# Altium footprint library Estacion_Meteorologica_Final.PcbLib: 55 footprints (part 4 of 4)
Each footprint in its own frame and in the unit in brackets; x right, y up, seen from the top. Pads: shape width x height; smd on the part's side, far side on the other; paste and mask are expansions set on the pad; w line width, h text height; cw(c..) or ccw(c..) is an arc to the next point about the centre after c.
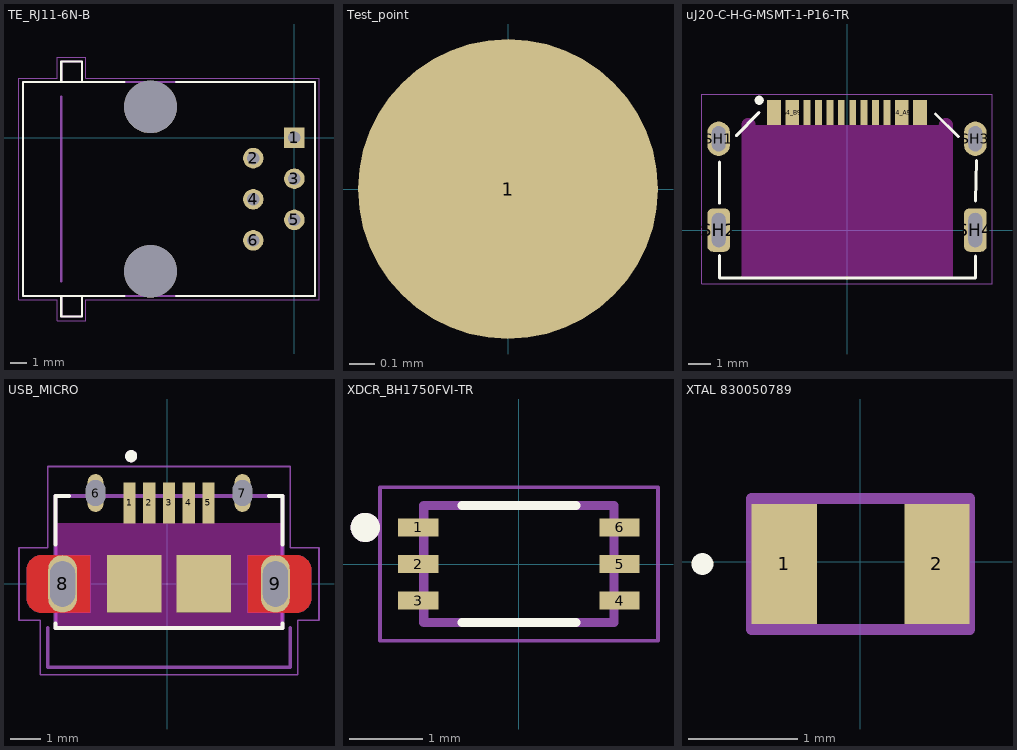
[diagram p3: the footprints below, top view; thin cyan lines are the x and y axes]

## TE_RJ11-6N-B [mm]
pads (8):
  rect 1.268x1.268 / inner round 1.268 / far side rect 1.268x1.268 hole 0.76: 1(0,0)
  round 1.268 hole 0.76: 2(-2.54,-1.27) 3(0,-2.54) 4(-2.54,-3.81) 5(0,-5.08) 6(-2.54,-6.35)
  round 3.25 hole 3.25 unplated: ""(-8.89,-8.26) ""(-8.89,1.9)
Top Overlay:
  lines w0.127: -10.5,-9.78 -13.13,-9.78 ; -10.5,3.43 -13.13,3.43 ; -7.3,-9.78 1.27,-9.78 1.27,3.43 -7.3,3.43 ; -14.4,-9.78 -13.13,-9.78 ; -14.4,-9.78 -16.76,-9.78 -16.76,3.43 -14.4,3.43 ; -14.4,-9.78 -14.4,-11.05 -13.13,-11.05 -13.13,-9.78 ; -14.4,3.43 -13.13,3.43 ; -14.4,3.43 -14.4,4.7 -13.13,4.7 -13.13,3.43
Mechanical 13:
  lines w0.127: -14.4,-8.89 -14.4,2.54 ; -14.4,-9.78 -13.13,-9.78 ; -14.4,-9.78 -16.76,-9.78 -16.76,3.43 -14.4,3.43 ; -14.4,-9.78 -14.4,-11.05 -13.13,-11.05 -13.13,-9.78 ; -14.4,3.43 -13.13,3.43 ; -14.4,3.43 -14.4,4.7 -13.13,4.7 -13.13,3.43 ; -13.13,-9.78 1.27,-9.78 1.27,3.43 -13.13,3.43
  text "PCB EDGE" at -14.761,-5.087 h0.5
Mechanical 15:
  lines w0.05: -17.01,-10.03 -14.65,-10.03 -14.65,-11.3 -12.88,-11.3 -12.88,-10.03 1.52,-10.03 1.52,3.68 -12.88,3.68 -12.88,4.95 -14.65,4.95 -14.65,3.68 -17.01,3.68 -17.01,-10.03
3D body "step_temp.STEP": height 12.57, standoff -3.94, extent -16.764,-11.049 1.27,4.699

## Test_point [mm]
pads (1):
  round 1.2 smd: 1(0,0)

## uJ20-C-H-G-MSMT-1-P16-TR [mm]
height 1.56
pads (16):
  rect 0.6x1.1 smd: A1_B12(-3.2,5.15) A4_B9(-2.4,5.15) A12_B1(3.2,5.15) B4_A9(2.4,5.15)
  rect 0.3x1.1 smd: A5(-1.25,5.15) A6(-0.25,5.15) A7(0.25,5.15) A8(1.25,5.15) B5(1.75,5.15) B6(0.75,5.15) B7(-0.75,5.15) B8(-1.75,5.15)
  oval 1x1.5 hole 0.6 slot 1.1 at 90 deg: SH1(-5.62,4) SH3(5.62,4)
  rrect50% 1x1.9 hole 0.6 slot 1.5 at 90 deg: SH2(-5.62,0) SH4(5.62,0)
Top Overlay:
  circle w0.2: c-3.846,5.687 r0.1
  lines w0.127: -5.591,-1.113 -5.591,-2.1 5.634,-2.1 5.634,-1.143 ; -5.591,1.176 -5.58,2.99 ; -4.851,4.133 -3.861,5.143 ; 3.871,5.083 4.882,4.092 ; 5.634,1.28 5.664,3.04
Keep-Out Layer:
  board cut-out: 4.628,-2.1 -4.612,-2.1 -4.612,4.6 -4.612,4.616 -4.61,4.631 -4.608,4.647 -4.605,4.662 -4.602,4.678 -4.597,4.693 -4.592,4.708 -4.586,4.722 -4.579,4.736 -4.572,4.75 -4.564,4.763 -4.555,4.776 -4.545,4.789 -4.535,4.801 -4.524,4.812 -4.513,4.823 -4.501,4.833 -4.488,4.843 -4.475,4.852 -4.462,4.86 -4.448,4.867 -4.434,4.874 -4.42,4.88 -4.405,4.885 -4.39,4.89 -4.374,4.893 -4.359,4.896 -4.343,4.898 -4.328,4.9 -4.312,4.9 -4.296,4.9 -4.281,4.898 -4.265,4.896 -4.25,4.893 -4.234,4.89 -4.219,4.885 -4.204,4.88 -4.19,4.874 -4.176,4.867 -4.162,4.86 -4.149,4.852 -4.136,4.843 -4.123,4.833 -4.111,4.823 -4.1,4.812 -4.089,4.801 -4.079,4.789 -4.069,4.776 -4.06,4.763 -4.052,4.75 -4.045,4.736 -4.038,4.722 -4.032,4.708 -4.027,4.693 -4.022,4.678 -4.019,4.662 -4.016,4.647 -4.014,4.631 -4.012,4.616 -4.012,4.6 4.028,4.6 4.028,4.616 4.03,4.631 4.032,4.647 4.035,4.662 4.038,4.678 4.043,4.693 4.048,4.708 4.054,4.722 4.061,4.736 4.068,4.75 4.076,4.763 4.085,4.776 4.095,4.789 4.105,4.801 4.116,4.812 4.127,4.823 4.139,4.833 4.152,4.843 4.165,4.852 4.178,4.86 4.192,4.867 4.206,4.874 4.22,4.88 4.235,4.885 4.25,4.89 4.266,4.893 4.281,4.896 4.297,4.898 4.312,4.9 4.328,4.9 4.344,4.9 4.359,4.898 4.375,4.896 4.39,4.893 4.406,4.89 4.421,4.885 4.436,4.88 4.45,4.874 4.464,4.867 4.478,4.86 4.491,4.852 4.504,4.843 4.517,4.833 4.529,4.823 4.54,4.812 4.551,4.801 4.561,4.789 4.571,4.776 4.58,4.763 4.588,4.75 4.595,4.736 4.602,4.722 4.608,4.708 4.613,4.693 4.618,4.678 4.621,4.662 4.624,4.647 4.626,4.631 4.628,4.616 4.628,4.6
Mechanical 15:
  lines w0.05: -6.37,-2.35 -6.37,5.95 6.37,5.95 6.37,-2.35 -6.37,-2.35
3D body "Same_Sky_UJ20-C-H-G-MSMT-P16-TR.step": height 2.59, standoff -1.03, extent -5.77,-2.088 5.77,5.112

## USB_MICRO [mm]
pads (11):
  rect 0.4x1.35 smd mask+0.1: 1(-1.249,2.676) 2(-0.599,2.676) 3(0.051,2.676) 4(0.701,2.676) 5(1.351,2.676)
  oval 0.525x1.25 hole 0.65 slot 0.85 at 90 deg mask+0.1: 6(-2.374,3.001) 7(2.476,3.001)
  oval 0.95x1.9 hole 0.825 slot 1.5 at 90 deg mask+0.1: 8(-3.462,0.001) 9(3.563,0.001)
  rect 1.8x1.9 smd mask+0.1: ""(-1.099,0.001) ""(1.201,0.001)
Top Layer:
  region: 4.277,0.95 4.303,0.948 4.329,0.945 4.355,0.94 4.38,0.934 4.406,0.927 4.43,0.918 4.454,0.908 4.478,0.897 4.501,0.884 4.523,0.87 4.545,0.856 4.566,0.84 4.586,0.823 4.605,0.805 4.623,0.786 4.64,0.766 4.656,0.745 4.67,0.723 4.684,0.701 4.697,0.678 4.708,0.654 4.718,0.63 4.727,0.606 4.734,0.58 4.74,0.555 4.745,0.529 4.748,0.503 4.75,0.477 4.751,0.451 4.751,0.001 3.976,0.001 3.976,0.476 3.976,0.49 3.974,0.505 3.973,0.519 3.97,0.533 3.967,0.547 3.963,0.561 3.958,0.575 3.952,0.588 3.946,0.601 3.939,0.614 3.932,0.626 3.923,0.638 3.915,0.649 3.905,0.66 3.895,0.67 3.885,0.68 3.874,0.69 3.863,0.698 3.851,0.707 3.838,0.714 3.826,0.721 3.813,0.727 3.8,0.733 3.786,0.738 3.772,0.742 3.758,0.745 3.744,0.748 3.73,0.749 3.715,0.751 3.435,0.751 3.42,0.749 3.404,0.747 3.389,0.744 3.373,0.741 3.358,0.736 3.343,0.731 3.329,0.725 3.315,0.718 3.301,0.711 3.288,0.703 3.275,0.694 3.262,0.684 3.25,0.674 3.239,0.663 3.228,0.652 3.218,0.64 3.208,0.627 3.199,0.614 3.191,0.601 3.184,0.587 3.177,0.573 3.171,0.559 3.166,0.544 3.161,0.529 3.158,0.513 3.155,0.498 3.153,0.482 3.151,0.467 3.151,0.451 3.151,0.001 2.651,0.001 2.651,0.951 4.251,0.951
  region: -2.549,-0.949 -4.149,-0.949 -4.175,-0.948 -4.201,-0.946 -4.227,-0.943 -4.253,-0.938 -4.278,-0.932 -4.304,-0.925 -4.328,-0.916 -4.352,-0.906 -4.376,-0.895 -4.399,-0.882 -4.421,-0.868 -4.443,-0.854 -4.464,-0.838 -4.484,-0.821 -4.503,-0.803 -4.521,-0.784 -4.538,-0.764 -4.554,-0.743 -4.568,-0.721 -4.582,-0.699 -4.595,-0.676 -4.606,-0.652 -4.616,-0.628 -4.625,-0.604 -4.632,-0.578 -4.638,-0.553 -4.643,-0.527 -4.646,-0.501 -4.648,-0.475 -4.649,-0.449 -4.649,0.001 -3.874,0.001 -3.874,-0.474 -3.874,-0.488 -3.872,-0.503 -3.871,-0.517 -3.868,-0.531 -3.865,-0.545 -3.861,-0.559 -3.856,-0.573 -3.85,-0.586 -3.844,-0.599 -3.837,-0.612 -3.83,-0.624 -3.821,-0.636 -3.813,-0.647 -3.803,-0.658 -3.793,-0.668 -3.783,-0.678 -3.772,-0.688 -3.761,-0.696 -3.749,-0.705 -3.736,-0.712 -3.724,-0.719 -3.711,-0.725 -3.698,-0.731 -3.684,-0.736 -3.67,-0.74 -3.656,-0.743 -3.642,-0.746 -3.628,-0.747 -3.613,-0.749 -3.333,-0.749 -3.318,-0.747 -3.302,-0.745 -3.287,-0.742 -3.271,-0.739 -3.256,-0.734 -3.241,-0.729 -3.227,-0.723 -3.213,-0.716 -3.199,-0.709 -3.186,-0.701 -3.173,-0.692 -3.16,-0.682 -3.148,-0.672 -3.137,-0.661 -3.126,-0.65 -3.116,-0.638 -3.106,-0.625 -3.097,-0.612 -3.089,-0.599 -3.082,-0.585 -3.075,-0.571 -3.069,-0.557 -3.064,-0.542 -3.059,-0.527 -3.056,-0.511 -3.053,-0.496 -3.051,-0.48 -3.049,-0.465 -3.049,-0.449 -3.049,0.001 -2.549,0.001
  region: 4.751,-0.449 4.75,-0.475 4.748,-0.501 4.745,-0.527 4.74,-0.553 4.734,-0.578 4.727,-0.604 4.718,-0.628 4.708,-0.652 4.697,-0.676 4.684,-0.699 4.67,-0.721 4.656,-0.743 4.64,-0.764 4.623,-0.784 4.605,-0.803 4.586,-0.821 4.566,-0.838 4.545,-0.854 4.523,-0.868 4.501,-0.882 4.478,-0.895 4.454,-0.906 4.43,-0.916 4.406,-0.925 4.38,-0.932 4.355,-0.938 4.329,-0.943 4.303,-0.946 4.277,-0.948 4.251,-0.949 2.651,-0.949 2.651,0.001 3.151,0.001 3.151,-0.449 3.151,-0.465 3.153,-0.48 3.155,-0.496 3.158,-0.511 3.161,-0.527 3.166,-0.542 3.171,-0.557 3.177,-0.571 3.184,-0.585 3.191,-0.599 3.199,-0.612 3.208,-0.625 3.218,-0.638 3.228,-0.65 3.239,-0.661 3.25,-0.672 3.262,-0.682 3.275,-0.692 3.288,-0.701 3.301,-0.709 3.315,-0.716 3.329,-0.723 3.343,-0.729 3.358,-0.734 3.373,-0.739 3.389,-0.742 3.404,-0.745 3.42,-0.747 3.435,-0.749 3.692,-0.749 3.707,-0.747 3.723,-0.745 3.738,-0.742 3.754,-0.739 3.769,-0.734 3.784,-0.729 3.798,-0.723 3.812,-0.716 3.826,-0.709 3.839,-0.701 3.852,-0.692 3.865,-0.682 3.877,-0.672 3.888,-0.661 3.899,-0.65 3.909,-0.638 3.919,-0.625 3.928,-0.612 3.936,-0.599 3.943,-0.585 3.95,-0.571 3.956,-0.557 3.961,-0.542 3.966,-0.527 3.969,-0.511 3.972,-0.496 3.974,-0.48 3.976,-0.465 3.976,-0.449 3.976,0.001 4.751,0.001
  region: -2.549,0.001 -3.049,0.001 -3.049,0.451 -3.049,0.467 -3.051,0.482 -3.053,0.498 -3.056,0.513 -3.059,0.529 -3.064,0.544 -3.069,0.559 -3.075,0.573 -3.082,0.587 -3.089,0.601 -3.097,0.614 -3.106,0.627 -3.116,0.64 -3.126,0.652 -3.137,0.663 -3.148,0.674 -3.16,0.684 -3.173,0.694 -3.186,0.703 -3.199,0.711 -3.213,0.718 -3.227,0.725 -3.241,0.731 -3.256,0.736 -3.271,0.741 -3.287,0.744 -3.302,0.747 -3.318,0.749 -3.333,0.751 -3.59,0.751 -3.605,0.749 -3.621,0.747 -3.636,0.744 -3.652,0.741 -3.667,0.736 -3.682,0.731 -3.696,0.725 -3.71,0.718 -3.724,0.711 -3.737,0.703 -3.75,0.694 -3.763,0.684 -3.775,0.674 -3.786,0.663 -3.797,0.652 -3.807,0.64 -3.817,0.627 -3.826,0.614 -3.834,0.601 -3.841,0.587 -3.848,0.573 -3.854,0.559 -3.859,0.544 -3.864,0.529 -3.867,0.513 -3.87,0.498 -3.872,0.482 -3.874,0.467 -3.874,0.451 -3.874,0.001 -4.649,0.001 -4.649,0.451 -4.648,0.477 -4.646,0.503 -4.643,0.529 -4.638,0.555 -4.632,0.58 -4.625,0.606 -4.616,0.63 -4.606,0.654 -4.595,0.678 -4.582,0.701 -4.568,0.723 -4.554,0.745 -4.538,0.766 -4.521,0.786 -4.503,0.805 -4.484,0.823 -4.464,0.84 -4.443,0.856 -4.421,0.87 -4.399,0.884 -4.376,0.897 -4.352,0.908 -4.328,0.918 -4.304,0.927 -4.278,0.934 -4.253,0.94 -4.227,0.945 -4.201,0.948 -4.175,0.95 -4.149,0.951 -2.549,0.951
Bottom Layer:
  region: 4.277,0.95 4.303,0.948 4.329,0.945 4.355,0.94 4.38,0.934 4.406,0.927 4.43,0.918 4.454,0.908 4.478,0.897 4.501,0.884 4.523,0.87 4.545,0.856 4.566,0.84 4.586,0.823 4.605,0.805 4.623,0.786 4.64,0.766 4.656,0.745 4.67,0.723 4.684,0.701 4.697,0.678 4.708,0.654 4.718,0.63 4.727,0.606 4.734,0.58 4.74,0.555 4.745,0.529 4.748,0.503 4.75,0.477 4.751,0.451 4.751,0.001 3.976,0.001 3.976,0.476 3.976,0.49 3.974,0.505 3.973,0.519 3.97,0.533 3.967,0.547 3.963,0.561 3.958,0.575 3.952,0.588 3.946,0.601 3.939,0.614 3.932,0.626 3.923,0.638 3.915,0.649 3.905,0.66 3.895,0.67 3.885,0.68 3.874,0.69 3.863,0.698 3.851,0.707 3.838,0.714 3.826,0.721 3.813,0.727 3.8,0.733 3.786,0.738 3.772,0.742 3.758,0.745 3.744,0.748 3.73,0.749 3.715,0.751 3.435,0.751 3.42,0.749 3.404,0.747 3.389,0.744 3.373,0.741 3.358,0.736 3.343,0.731 3.329,0.725 3.315,0.718 3.301,0.711 3.288,0.703 3.275,0.694 3.262,0.684 3.25,0.674 3.239,0.663 3.228,0.652 3.218,0.64 3.208,0.627 3.199,0.614 3.191,0.601 3.184,0.587 3.177,0.573 3.171,0.559 3.166,0.544 3.161,0.529 3.158,0.513 3.155,0.498 3.153,0.482 3.151,0.467 3.151,0.451 3.151,0.001 2.651,0.001 2.651,0.951 4.251,0.951
  region: -2.549,-0.949 -4.149,-0.949 -4.175,-0.948 -4.201,-0.946 -4.227,-0.943 -4.253,-0.938 -4.278,-0.932 -4.304,-0.925 -4.328,-0.916 -4.352,-0.906 -4.376,-0.895 -4.399,-0.882 -4.421,-0.868 -4.443,-0.854 -4.464,-0.838 -4.484,-0.821 -4.503,-0.803 -4.521,-0.784 -4.538,-0.764 -4.554,-0.743 -4.568,-0.721 -4.582,-0.699 -4.595,-0.676 -4.606,-0.652 -4.616,-0.628 -4.625,-0.604 -4.632,-0.578 -4.638,-0.553 -4.643,-0.527 -4.646,-0.501 -4.648,-0.475 -4.649,-0.449 -4.649,0.001 -3.874,0.001 -3.874,-0.474 -3.874,-0.488 -3.872,-0.503 -3.871,-0.517 -3.868,-0.531 -3.865,-0.545 -3.861,-0.559 -3.856,-0.573 -3.85,-0.586 -3.844,-0.599 -3.837,-0.612 -3.83,-0.624 -3.821,-0.636 -3.813,-0.647 -3.803,-0.658 -3.793,-0.668 -3.783,-0.678 -3.772,-0.688 -3.761,-0.696 -3.749,-0.705 -3.736,-0.712 -3.724,-0.719 -3.711,-0.725 -3.698,-0.731 -3.684,-0.736 -3.67,-0.74 -3.656,-0.743 -3.642,-0.746 -3.628,-0.747 -3.613,-0.749 -3.333,-0.749 -3.318,-0.747 -3.302,-0.745 -3.287,-0.742 -3.271,-0.739 -3.256,-0.734 -3.241,-0.729 -3.227,-0.723 -3.213,-0.716 -3.199,-0.709 -3.186,-0.701 -3.173,-0.692 -3.16,-0.682 -3.148,-0.672 -3.137,-0.661 -3.126,-0.65 -3.116,-0.638 -3.106,-0.625 -3.097,-0.612 -3.089,-0.599 -3.082,-0.585 -3.075,-0.571 -3.069,-0.557 -3.064,-0.542 -3.059,-0.527 -3.056,-0.511 -3.053,-0.496 -3.051,-0.48 -3.049,-0.465 -3.049,-0.449 -3.049,0.001 -2.549,0.001
  region: 4.751,-0.449 4.75,-0.475 4.748,-0.501 4.745,-0.527 4.74,-0.553 4.734,-0.578 4.727,-0.604 4.718,-0.628 4.708,-0.652 4.697,-0.676 4.684,-0.699 4.67,-0.721 4.656,-0.743 4.64,-0.764 4.623,-0.784 4.605,-0.803 4.586,-0.821 4.566,-0.838 4.545,-0.854 4.523,-0.868 4.501,-0.882 4.478,-0.895 4.454,-0.906 4.43,-0.916 4.406,-0.925 4.38,-0.932 4.355,-0.938 4.329,-0.943 4.303,-0.946 4.277,-0.948 4.251,-0.949 2.651,-0.949 2.651,0.001 3.151,0.001 3.151,-0.449 3.151,-0.465 3.153,-0.48 3.155,-0.496 3.158,-0.511 3.161,-0.527 3.166,-0.542 3.171,-0.557 3.177,-0.571 3.184,-0.585 3.191,-0.599 3.199,-0.612 3.208,-0.625 3.218,-0.638 3.228,-0.65 3.239,-0.661 3.25,-0.672 3.262,-0.682 3.275,-0.692 3.288,-0.701 3.301,-0.709 3.315,-0.716 3.329,-0.723 3.343,-0.729 3.358,-0.734 3.373,-0.739 3.389,-0.742 3.404,-0.745 3.42,-0.747 3.435,-0.749 3.692,-0.749 3.707,-0.747 3.723,-0.745 3.738,-0.742 3.754,-0.739 3.769,-0.734 3.784,-0.729 3.798,-0.723 3.812,-0.716 3.826,-0.709 3.839,-0.701 3.852,-0.692 3.865,-0.682 3.877,-0.672 3.888,-0.661 3.899,-0.65 3.909,-0.638 3.919,-0.625 3.928,-0.612 3.936,-0.599 3.943,-0.585 3.95,-0.571 3.956,-0.557 3.961,-0.542 3.966,-0.527 3.969,-0.511 3.972,-0.496 3.974,-0.48 3.976,-0.465 3.976,-0.449 3.976,0.001 4.751,0.001
  region: -2.549,0.001 -3.049,0.001 -3.049,0.451 -3.049,0.467 -3.051,0.482 -3.053,0.498 -3.056,0.513 -3.059,0.529 -3.064,0.544 -3.069,0.559 -3.075,0.573 -3.082,0.587 -3.089,0.601 -3.097,0.614 -3.106,0.627 -3.116,0.64 -3.126,0.652 -3.137,0.663 -3.148,0.674 -3.16,0.684 -3.173,0.694 -3.186,0.703 -3.199,0.711 -3.213,0.718 -3.227,0.725 -3.241,0.731 -3.256,0.736 -3.271,0.741 -3.287,0.744 -3.302,0.747 -3.318,0.749 -3.333,0.751 -3.59,0.751 -3.605,0.749 -3.621,0.747 -3.636,0.744 -3.652,0.741 -3.667,0.736 -3.682,0.731 -3.696,0.725 -3.71,0.718 -3.724,0.711 -3.737,0.703 -3.75,0.694 -3.763,0.684 -3.775,0.674 -3.786,0.663 -3.797,0.652 -3.807,0.64 -3.817,0.627 -3.826,0.614 -3.834,0.601 -3.841,0.587 -3.848,0.573 -3.854,0.559 -3.859,0.544 -3.864,0.529 -3.867,0.513 -3.87,0.498 -3.872,0.482 -3.874,0.467 -3.874,0.451 -3.874,0.001 -4.649,0.001 -4.649,0.451 -4.648,0.477 -4.646,0.503 -4.643,0.529 -4.638,0.555 -4.632,0.58 -4.625,0.606 -4.616,0.63 -4.606,0.654 -4.595,0.678 -4.582,0.701 -4.568,0.723 -4.554,0.745 -4.538,0.766 -4.521,0.786 -4.503,0.805 -4.484,0.823 -4.464,0.84 -4.443,0.856 -4.421,0.87 -4.399,0.884 -4.376,0.897 -4.352,0.908 -4.328,0.918 -4.304,0.927 -4.278,0.934 -4.253,0.94 -4.227,0.945 -4.201,0.948 -4.175,0.95 -4.149,0.951 -2.549,0.951
Top Overlay:
  circle w0.2: c-1.199,4.216 r0.1
  lines w0.127: -3.699,-1.299 -3.699,-1.449 3.801,-1.449 3.801,-1.299 ; -3.699,1.301 -3.699,2.901 -3.249,2.901 ; 3.351,2.901 3.801,2.901 3.801,1.301
Top Paste:
  drawing of 8 lines, arcs and shapes, not listed
Bottom Paste:
  drawing of 8 lines, arcs and shapes, not listed
Top Solder:
  region: 4.851,-1.052 2.553,-1.052 2.553,1.051 4.851,1.051
  region: -2.449,-1.049 -4.75,-1.049 -4.75,1.051 -2.449,1.051
Bottom Solder:
  region: 4.851,-1.052 2.553,-1.052 2.553,-0.949 2.651,-0.949 2.651,0.951 2.553,0.951 2.553,1.051 4.851,1.051
  region: -2.449,0.951 -2.549,0.951 -2.549,-0.949 -2.449,-0.949 -2.449,-1.049 -4.75,-1.049 -4.75,1.051 -2.449,1.051
Keep-Out Layer:
  region: 3.801,-1.449 -3.699,-1.449 -3.699,-0.949 3.801,-0.949
  region: 2.651,-0.949 2.101,-0.949 2.101,0.951 2.651,0.951
  region: 0.301,-0.949 -0.199,-0.949 -0.199,0.951 0.301,0.951
  region: -1.999,-0.949 -2.549,-0.949 -2.549,0.951 -1.999,0.951
  region: 3.801,0.951 -3.699,0.951 -3.699,2.001 3.801,2.001
  region: 2.651,-0.949 2.101,-0.949 2.101,0.951 2.651,0.951
  region: 0.301,-0.949 -0.199,-0.949 -0.199,0.951 0.301,0.951
  region: -1.999,-0.949 -2.549,-0.949 -2.549,0.951 -1.999,0.951
Mechanical 13:
  circle w0.2: c-1.199,4.216 r0.1
  lines w0.127: -3.949,-1.449 -3.949,-2.749 4.051,-2.749 4.051,-1.449 ; -3.699,-1.449 3.801,-1.449 3.801,2.901 -3.699,2.901 -3.699,-1.449
Mechanical 15:
  lines w0.05: -4.899,-1.199 -4.199,-1.199 -4.199,-2.999 4.301,-2.999 4.301,-1.199 5.001,-1.199 5.001,1.201 4.051,1.201 4.051,3.876 -3.949,3.876 -3.949,1.201 -4.899,1.201 -4.899,-1.199
3D body "step_temp.STEP": height 2.78, standoff -0.72, extent -3.996,-2.565 4.097,3.235

## XDCR_BH1750FVI-TR [mm]
height 0.75
pads (6):
  rect 0.55x0.25 smd: 1(-1.375,0.5) 2(-1.375,0) 3(-1.375,-0.5) 4(1.375,-0.5) 5(1.375,0) 6(1.375,0.5)
Top Overlay:
  circle w0.2: c-2.1,0.5 r0.1
  lines w0.127: -0.78,-0.8 0.78,-0.8 ; -0.78,0.8 0.78,0.8
Mechanical 13:
  circle w0.2: c-2.1,0.5 r0.1
  lines w0.127: -1.3,-0.8 -1.3,0.8 1.3,0.8 1.3,-0.8 -1.3,-0.8
Mechanical 15:
  lines w0.05: -1.9,-1.05 1.9,-1.05 1.9,1.05 -1.9,1.05 -1.9,-1.05
3D body "step_temp.STEP": height 0.75, standoff 0, extent -1.5,-0.8 1.5,0.8

## XTAL 830050789 [mm]
pads (2):
  rect 0.6x1.1 smd: 1(-0.695,-0.02) 2(0.705,-0.02)
Top Overlay:
  lines w0.1: -1.495,-0.02 ccw(c-1.445,-0.02) -1.395,-0.02 ccw(c-1.445,-0.02) -1.495,-0.02
Mechanical 15:
  lines w0.1: -0.995,-0.62 -0.995,0.58 1.005,0.58 1.005,-0.62 -0.995,-0.62
3D body "830050789.stp": height 0.55, standoff 0, extent -0.995,-0.625 1.005,0.575

## Zenner [mm]